# Altium schematic symbol library WCAP-HTAH.SchLib: 18 symbols
Pins are listed as number, name and electrical type; pins without a type are passive.

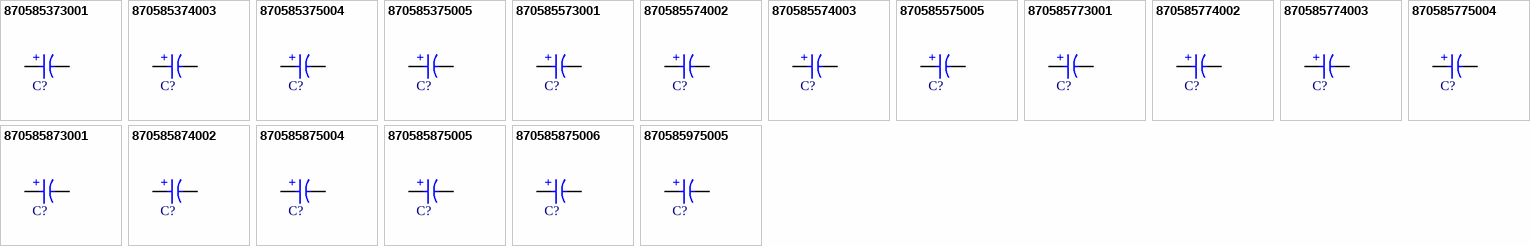
[diagram p0: symbols 870585373001 to 870585975005]

## 870585373001
designator C?, comment 120uF  (value not drawn)
WCAP-HTAH Aluminum Hybrid Polymer Capacitor, THT, D6.3 x H8mm, 120uF, 16V; Manufacturer Part Number: 870585373001; Manufacturer: Wurth Elektronik; Dissipation Factor: 16%; Endurance: 2000h; ESR: 32mOhm; Leakage Current: 19.2uA; Ripple Current: 1440mA; Category: Aluminum Hybrid Polymer Capacitors; Match Code: WCAP-HTAH; ComponentLink1Description: Website Link; ComponentLink1URL: https://www.we-online.com/redexpert/article/870585373001?ad; ComponentLink2Description: Datasheet Link; ComponentLink2URL: https://www.we-online.com/redexpert/spec/870585373001?ad; Mount: Through Hole; Operating Temperature Max: 125°C; Operating Temperature Min: -55°C; Packaging: Ammo Pack; Height: 8mm; Diameter: 6.3mm; Capacitance: 120uF; Rated Voltage (DC): 16V
footprint WCAP-HTAH_D6.3H8
simulation model 870585373001_120uF
pins: 1 P, 2 N
text: +

## 870585374003
designator C?, comment 330uF  (value not drawn)
WCAP-HTAH Aluminum Hybrid Polymer Capacitor, THT, D8 x H11.5mm, 330uF, 16V; Manufacturer Part Number: 870585374003; Manufacturer: Wurth Elektronik; Dissipation Factor: 16%; Endurance: 4000h; ESR: 20mOhm; Leakage Current: 52.8uA; Ripple Current: 2340mA; Category: Aluminum Hybrid Polymer Capacitors; Match Code: WCAP-HTAH; ComponentLink1Description: Website Link; ComponentLink1URL: https://www.we-online.com/redexpert/article/870585374003?ad; ComponentLink2Description: Datasheet Link; ComponentLink2URL: https://www.we-online.com/redexpert/spec/870585374003?ad; Mount: Through Hole; Operating Temperature Max: 125°C; Operating Temperature Min: -55°C; Packaging: Ammo Pack; Height: 11.5mm; Diameter: 8mm; Capacitance: 330uF; Rated Voltage (DC): 16V
footprint WCAP-HTAH_D8H11.5
simulation model 870585374003_330uF
pins: 1 P, 2 N
text: +

## 870585375004
designator C?, comment 470uF  (value not drawn)
WCAP-HTAH Aluminum Hybrid Polymer Capacitor, THT, D10 x H10mm, 470uF, 16V; Manufacturer Part Number: 870585375004; Manufacturer: Wurth Elektronik; Dissipation Factor: 16%; Endurance: 4000h; ESR: 18mOhm; Leakage Current: 75.2uA; Ripple Current: 2620mA; Category: Aluminum Hybrid Polymer Capacitors; Match Code: WCAP-HTAH; ComponentLink1Description: Website Link; ComponentLink1URL: https://www.we-online.com/redexpert/article/870585375004?ad; ComponentLink2Description: Datasheet Link; ComponentLink2URL: https://www.we-online.com/redexpert/spec/870585375004?ad; Mount: Through Hole; Operating Temperature Max: 125°C; Operating Temperature Min: -55°C; Packaging: Ammo Pack; Height: 10mm; Diameter: 10mm; Capacitance: 470uF; Rated Voltage (DC): 16V
footprint WCAP-HTAH_D10H10
simulation model 870585375004_470uF
pins: 1 P, 2 N
text: +

## 870585375005
designator C?, comment 560uF  (value not drawn)
WCAP-HTAH Aluminum Hybrid Polymer Capacitor, THT, D10 x H12.5mm, 560uF, 16V; Manufacturer Part Number: 870585375005; Manufacturer: Wurth Elektronik; Dissipation Factor: 16%; Endurance: 4000h; ESR: 14mOhm; Leakage Current: 89.6uA; Ripple Current: 3030mA; Category: Aluminum Hybrid Polymer Capacitors; Match Code: WCAP-HTAH; ComponentLink1Description: Website Link; ComponentLink1URL: https://www.we-online.com/redexpert/article/870585375005?ad; ComponentLink2Description: Datasheet Link; ComponentLink2URL: https://www.we-online.com/redexpert/spec/870585375005?ad; Mount: Through Hole; Operating Temperature Max: 125°C; Operating Temperature Min: -55°C; Packaging: Ammo Pack; Height: 12.5mm; Diameter: 10mm; Capacitance: 560uF; Rated Voltage (DC): 16V
footprint WCAP-HTAH_D10H12.5
simulation model 870585375005_560uF
pins: 1 P, 2 N
text: +

## 870585573001
designator C?, comment 68uF  (value not drawn)
WCAP-HTAH Aluminum Hybrid Polymer Capacitor, THT, D6.3 x H8mm, 68uF, 25V; Manufacturer Part Number: 870585573001; Manufacturer: Wurth Elektronik; Dissipation Factor: 16%; Endurance: 2000h; ESR: 35mOhm; Leakage Current: 17uA; Ripple Current: 1380mA; Category: Aluminum Hybrid Polymer Capacitors; Match Code: WCAP-HTAH; ComponentLink1Description: Website Link; ComponentLink1URL: https://www.we-online.com/redexpert/article/870585573001?ad; ComponentLink2Description: Datasheet Link; ComponentLink2URL: https://www.we-online.com/redexpert/spec/870585573001?ad; Mount: Through Hole; Operating Temperature Max: 125°C; Operating Temperature Min: -55°C; Packaging: Ammo Pack; Height: 8mm; Diameter: 6.3mm; Capacitance: 68uF; Rated Voltage (DC): 25V
footprint WCAP-HTAH_D6.3H8
simulation model 870585573001_68uF
pins: 1 P, 2 N
text: +

## 870585574002
designator C?, comment 150uF  (value not drawn)
WCAP-HTAH Aluminum Hybrid Polymer Capacitor, THT, D8 x H9mm, 150uF, 25V; Manufacturer Part Number: 870585574002; Manufacturer: Wurth Elektronik; Dissipation Factor: 16%; Endurance: 4000h; ESR: 25mOhm; Leakage Current: 37.5uA; Ripple Current: 1880mA; Category: Aluminum Hybrid Polymer Capacitors; Match Code: WCAP-HTAH; ComponentLink1Description: Website Link; ComponentLink1URL: https://www.we-online.com/redexpert/article/870585574002?ad; ComponentLink2Description: Datasheet Link; ComponentLink2URL: https://www.we-online.com/redexpert/spec/870585574002?ad; Mount: Through Hole; Operating Temperature Max: 125°C; Operating Temperature Min: -55°C; Packaging: Ammo Pack; Height: 9mm; Diameter: 8mm; Capacitance: 150uF; Rated Voltage (DC): 25V
footprint WCAP-HTAH_D8H9
simulation model 870585574002_150uF
pins: 1 P, 2 N
text: +

## 870585574003
designator C?, comment 220uF  (value not drawn)
WCAP-HTAH Aluminum Hybrid Polymer Capacitor, THT, D8 x H11.5mm, 220uF, 25V; Manufacturer Part Number: 870585574003; Manufacturer: Wurth Elektronik; Dissipation Factor: 16%; Endurance: 4000h; ESR: 22mOhm; Leakage Current: 55uA; Ripple Current: 2230mA; Category: Aluminum Hybrid Polymer Capacitors; Match Code: WCAP-HTAH; ComponentLink1Description: Website Link; ComponentLink1URL: https://www.we-online.com/redexpert/article/870585574003?ad; ComponentLink2Description: Datasheet Link; ComponentLink2URL: https://www.we-online.com/redexpert/spec/870585574003?ad; Mount: Through Hole; Operating Temperature Max: 125°C; Operating Temperature Min: -55°C; Packaging: Ammo Pack; Height: 11.5mm; Diameter: 8mm; Capacitance: 220uF; Rated Voltage (DC): 25V
footprint WCAP-HTAH_D8H11.5
simulation model 870585574003_220uF
pins: 1 P, 2 N
text: +

## 870585575005
designator C?, comment 330uF  (value not drawn)
WCAP-HTAH Aluminum Hybrid Polymer Capacitor, THT, D10 x H12.5mm, 330uF, 25V; Manufacturer Part Number: 870585575005; Manufacturer: Wurth Elektronik; Dissipation Factor: 16%; Endurance: 4000h; ESR: 14mOhm; Leakage Current: 82.5uA; Ripple Current: 2890mA; Category: Aluminum Hybrid Polymer Capacitors; Match Code: WCAP-HTAH; ComponentLink1Description: Website Link; ComponentLink1URL: https://www.we-online.com/redexpert/article/870585575005?ad; ComponentLink2Description: Datasheet Link; ComponentLink2URL: https://www.we-online.com/redexpert/spec/870585575005?ad; Mount: Through Hole; Operating Temperature Max: 125°C; Operating Temperature Min: -55°C; Packaging: Ammo Pack; Height: 12.5mm; Diameter: 10mm; Capacitance: 330uF; Rated Voltage (DC): 25V
footprint WCAP-HTAH_D10H12.5
simulation model 870585575005_330uF
pins: 1 P, 2 N
text: +

## 870585773001
designator C?, comment 15uF  (value not drawn)
WCAP-HTAH Aluminum Hybrid Polymer Capacitor, THT, D6.3 x H8mm, 15uF, 50V; Manufacturer Part Number: 870585773001; Manufacturer: Wurth Elektronik; Dissipation Factor: 16%; Endurance: 2000h; ESR: 80mOhm; Leakage Current: 7.5uA; Ripple Current: 960mA; Category: Aluminum Hybrid Polymer Capacitors; Match Code: WCAP-HTAH; ComponentLink1Description: Website Link; ComponentLink1URL: https://www.we-online.com/redexpert/article/870585773001?ad; ComponentLink2Description: Datasheet Link; ComponentLink2URL: https://www.we-online.com/redexpert/spec/870585773001?ad; Mount: Through Hole; Operating Temperature Max: 125°C; Operating Temperature Min: -55°C; Packaging: Ammo Pack; Height: 8mm; Diameter: 6.3mm; Capacitance: 15uF; Rated Voltage (DC): 50V
footprint WCAP-HTAH_D6.3H8
simulation model 870585773001_15uF
pins: 1 P, 2 N
text: +

## 870585774002
designator C?, comment 33uF  (value not drawn)
WCAP-HTAH Aluminum Hybrid Polymer Capacitor, THT, D8 x H9mm, 33uF, 50V; Manufacturer Part Number: 870585774002; Manufacturer: Wurth Elektronik; Dissipation Factor: 16%; Endurance: 4000h; ESR: 35mOhm; Leakage Current: 16.5uA; Ripple Current: 1330mA; Category: Aluminum Hybrid Polymer Capacitors; Match Code: WCAP-HTAH; ComponentLink1Description: Website Link; ComponentLink1URL: https://www.we-online.com/redexpert/article/870585774002?ad; ComponentLink2Description: Datasheet Link; ComponentLink2URL: https://www.we-online.com/redexpert/spec/870585774002?ad; Mount: Through Hole; Operating Temperature Max: 125°C; Operating Temperature Min: -55°C; Packaging: Ammo Pack; Height: 9mm; Diameter: 8mm; Capacitance: 33uF; Rated Voltage (DC): 50V
footprint WCAP-HTAH_D8H9
simulation model 870585774002_33uF
pins: 1 P, 2 N
text: +

## 870585774003
designator C?, comment 47uF  (value not drawn)
WCAP-HTAH Aluminum Hybrid Polymer Capacitor, THT, D8 x H11.5mm, 47uF, 50V; Manufacturer Part Number: 870585774003; Manufacturer: Wurth Elektronik; Dissipation Factor: 16%; Endurance: 4000h; ESR: 30mOhm; Leakage Current: 23.5uA; Ripple Current: 1520mA; Category: Aluminum Hybrid Polymer Capacitors; Match Code: WCAP-HTAH; ComponentLink1Description: Website Link; ComponentLink1URL: https://www.we-online.com/redexpert/article/870585774003?ad; ComponentLink2Description: Datasheet Link; ComponentLink2URL: https://www.we-online.com/redexpert/spec/870585774003?ad; Mount: Through Hole; Operating Temperature Max: 125°C; Operating Temperature Min: -55°C; Packaging: Ammo Pack; Height: 11.5mm; Diameter: 8mm; Capacitance: 47uF; Rated Voltage (DC): 50V
footprint WCAP-HTAH_D8H11.5
simulation model 870585774003_47uF
pins: 1 P, 2 N
text: +

## 870585775004
designator C?, comment 56uF  (value not drawn)
WCAP-HTAH Aluminum Hybrid Polymer Capacitor, THT, D10 x H10mm, 56uF, 50V; Manufacturer Part Number: 870585775004; Manufacturer: Wurth Elektronik; Dissipation Factor: 16%; Endurance: 4000h; ESR: 30mOhm; Leakage Current: 28uA; Ripple Current: 1850mA; Category: Aluminum Hybrid Polymer Capacitors; Match Code: WCAP-HTAH; ComponentLink1Description: Website Link; ComponentLink1URL: https://www.we-online.com/redexpert/article/870585775004?ad; ComponentLink2Description: Datasheet Link; ComponentLink2URL: https://www.we-online.com/redexpert/spec/870585775004?ad; Mount: Through Hole; Operating Temperature Max: 125°C; Operating Temperature Min: -55°C; Packaging: Ammo Pack; Height: 10mm; Diameter: 10mm; Capacitance: 56uF; Rated Voltage (DC): 50V
footprint WCAP-HTAH_D10H10
simulation model 870585775004_56uF
pins: 1 P, 2 N
text: +

## 870585873001
designator C?, comment 10uF  (value not drawn)
WCAP-HTAH Aluminum Hybrid Polymer Capacitor, THT, D6.3 x H8mm, 10uF, 63V; Manufacturer Part Number: 870585873001; Manufacturer: Wurth Elektronik; Dissipation Factor: 16%; Endurance: 2000h; ESR: 100mOhm; Leakage Current: 6.3uA; Ripple Current: 840mA; Category: Aluminum Hybrid Polymer Capacitors; Match Code: WCAP-HTAH; ComponentLink1Description: Website Link; ComponentLink1URL: https://www.we-online.com/redexpert/article/870585873001?ad; ComponentLink2Description: Datasheet Link; ComponentLink2URL: https://www.we-online.com/redexpert/spec/870585873001?ad; Mount: Through Hole; Operating Temperature Max: 125°C; Operating Temperature Min: -55°C; Packaging: Ammo Pack; Height: 8mm; Diameter: 6.3mm; Capacitance: 10uF; Rated Voltage (DC): 63V
footprint WCAP-HTAH_D6.3H8
simulation model 870585873001_10uF
pins: 1 P, 2 N
text: +

## 870585874002
designator C?, comment 22uF  (value not drawn)
WCAP-HTAH Aluminum Hybrid Polymer Capacitor, THT, D8 x H9mm, 22uF, 63V; Manufacturer Part Number: 870585874002; Manufacturer: Wurth Elektronik; Dissipation Factor: 16%; Endurance: 4000h; ESR: 40mOhm; Leakage Current: 13.9uA; Ripple Current: 1240mA; Category: Aluminum Hybrid Polymer Capacitors; Match Code: WCAP-HTAH; ComponentLink1Description: Website Link; ComponentLink1URL: https://www.we-online.com/redexpert/article/870585874002?ad; ComponentLink2Description: Datasheet Link; ComponentLink2URL: https://www.we-online.com/redexpert/spec/870585874002?ad; Mount: Through Hole; Operating Temperature Max: 125°C; Operating Temperature Min: -55°C; Packaging: Ammo Pack; Height: 9mm; Diameter: 8mm; Capacitance: 22uF; Rated Voltage (DC): 63V
footprint WCAP-HTAH_D8H9
simulation model 870585874002_22uF
pins: 1 P, 2 N
text: +

## 870585875004
designator C?, comment 33uF  (value not drawn)
WCAP-HTAH Aluminum Hybrid Polymer Capacitor, THT, D10 x H10mm, 33uF, 63V; Manufacturer Part Number: 870585875004; Manufacturer: Wurth Elektronik; Dissipation Factor: 16%; Endurance: 4000h; ESR: 35mOhm; Leakage Current: 20.8uA; Ripple Current: 1680mA; Category: Aluminum Hybrid Polymer Capacitors; Match Code: WCAP-HTAH; ComponentLink1Description: Website Link; ComponentLink1URL: https://www.we-online.com/redexpert/article/870585875004?ad; ComponentLink2Description: Datasheet Link; ComponentLink2URL: https://www.we-online.com/redexpert/spec/870585875004?ad; Mount: Through Hole; Operating Temperature Max: 125°C; Operating Temperature Min: -55°C; Packaging: Ammo Pack; Height: 10mm; Diameter: 10mm; Capacitance: 33uF; Rated Voltage (DC): 63V
footprint WCAP-HTAH_D10H10
simulation model 870585875004_33uF
pins: 1 P, 2 N
text: +

## 870585875005
designator C?, comment 47uF  (value not drawn)
WCAP-HTAH Aluminum Hybrid Polymer Capacitor, THT, D10 x H10mm, 47uF, 63V; Manufacturer Part Number: 870585875005; Manufacturer: Wurth Elektronik; Dissipation Factor: 16%; Endurance: 4000h; ESR: 35mOhm; Leakage Current: 29.6uA; Ripple Current: 1680mA; Category: Aluminum Hybrid Polymer Capacitors; Match Code: WCAP-HTAH; ComponentLink1Description: Website Link; ComponentLink1URL: https://www.we-online.com/redexpert/article/870585875005?ad; ComponentLink2Description: Datasheet Link; ComponentLink2URL: https://www.we-online.com/redexpert/spec/870585875005?ad; Mount: Through Hole; Operating Temperature Max: 125°C; Operating Temperature Min: -55°C; Packaging: Ammo Pack; Height: 10mm; Diameter: 10mm; Capacitance: 47uF; Rated Voltage (DC): 63V
footprint WCAP-HTAH_D10H10
simulation model 870585875005_47uF
pins: 1 P, 2 N
text: +

## 870585875006
designator C?, comment 56uF  (value not drawn)
WCAP-HTAH Aluminum Hybrid Polymer Capacitor, THT, D10 x H12.5mm, 56uF, 63V; Manufacturer Part Number: 870585875006; Manufacturer: Wurth Elektronik; Dissipation Factor: 16%; Endurance: 4000h; ESR: 30mOhm; Leakage Current: 35.3uA; Ripple Current: 1920mA; Category: Aluminum Hybrid Polymer Capacitors; Match Code: WCAP-HTAH; ComponentLink1Description: Website Link; ComponentLink1URL: https://www.we-online.com/redexpert/article/870585875006?ad; ComponentLink2Description: Datasheet Link; ComponentLink2URL: https://www.we-online.com/redexpert/spec/870585875006?ad; Mount: Through Hole; Operating Temperature Max: 125°C; Operating Temperature Min: -55°C; Packaging: Ammo Pack; Height: 12.5mm; Diameter: 10mm; Capacitance: 56uF; Rated Voltage (DC): 63V
footprint WCAP-HTAH_D10H12.5
simulation model 870585875006_56uF
pins: 1 P, 2 N
text: +

## 870585975005
designator C?, comment 15uF  (value not drawn)
WCAP-HTAH Aluminum Hybrid Polymer Capacitor, THT, D10 x H12.5mm, 15uF, 100V; Manufacturer Part Number: 870585975005; Manufacturer: Wurth Elektronik; Dissipation Factor: 16%; Endurance: 4000h; ESR: 70mOhm; Leakage Current: 15uA; Ripple Current: 1320mA; Category: Aluminum Hybrid Polymer Capacitors; Match Code: WCAP-HTAH; ComponentLink1Description: Website Link; ComponentLink1URL: https://www.we-online.com/redexpert/article/870585975005?ad; ComponentLink2Description: Datasheet Link; ComponentLink2URL: https://www.we-online.com/redexpert/spec/870585975005?ad; Mount: Through Hole; Operating Temperature Max: 125°C; Operating Temperature Min: -55°C; Packaging: Ammo Pack; Height: 12.5mm; Diameter: 10mm; Capacitance: 15uF; Rated Voltage (DC): 100V
footprint WCAP-HTAH_D10H12.5
simulation model 870585975005_15uF
pins: 1 P, 2 N
text: +